# EAGLE library part 6620XX231824_662008231824 (library Wurth_Connectors_WR-MPC3)
WR-MPC3 3.00 mm Male Header Dual Row Vertical with SMT Solder Tabs - SMT - Selective Gold Kind Properties Pitch 3 mm Rows Dual Type Vertical Operating Temperature -40 up to +105 °C Durability 75 Mating cycles Material Properties Insulator Material LCP Insulator Color Black Insulator Flammability Rating UL94 V-0 Pin Material Copper Alloy Pin Plating Selective Gold Electrical Properties IR 5 A Working Voltage 250 V (AC) Withstanding Voltage 1500 V (AC) Contact Resistance 10 mΩ Packaging Properties Packaging Tray Certification UL Approval E323964 <https://www.we-online.com/components/media/o726920v209%206620xx231822_Multi-Parts.jpg> Details see: www.we-online.com/components/products/WR-MPC3_3_00MM_MALE_HEADER_DUAL_ROW_VERTICAL_WITH_SMT_SOLDER_TABS_SMT_SELECTIVE_GOLD <www.we-online.com/catalog/WR-MPC3_3_00MM_MALE_HEADER_DUAL_ROW_VERTICAL_WITH_SMT_SOLDER_TABS_SMT_SELECTIVE_GOLD/?utm_source=eagle_model&utm_medium=description_link&utm_campaign=eisos_eagle> Created by Ella Wu 2023-10-12 2023 (C) Würth Elektronik
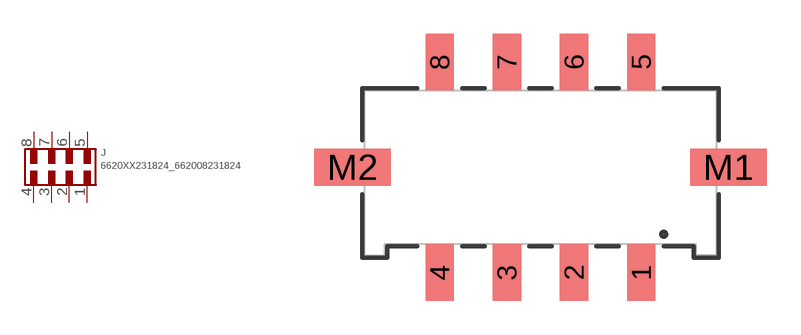
[diagram p150: symbol with the pads of 662008231824; footprint 662008231824]

Designator prefix J

## 6620XX231824_662008231824 (CONTACT-RESISTANCE: 10Ohm; DATASHEET-URL: https://www.we-online.com/redexpert/spec/662008231824?ae; GENDER: Male; IR: 5A; MOUNT: SMT; PART-NUMBER: 662008231824; PINS: 8; PITCH: 3mm; ROWS: Dual; TOL-R: max.; TYPE: Vertical; VALUE: 662008231824; WORKING-VOLTAGE: 250V(AC))  [662008231824]
1  1  pas
2  2  pas
3  3  pas
4  4  pas
5  5  pas
6  6  pas
7  7  pas
8  8  pas

## Footprint 662008231824 (pad centres in mm)
WR-MPC3 3.00 mm Male Header Dual Row Vertical with SMT Solder Tabs - SMT - Selective Gold 8 Pins
smd 1.27 x 2.54: 1 4.5,-4.7; 2 1.5,-4.7; 3 -1.5,-4.7; 4 -4.5,-4.7; 5 4.5,4.7; 6 1.5,4.7; 7 -1.5,4.7; 8 -4.5,4.7
smd 3.43 x 1.65: M1 8.395,0; M2 -8.395,0